# Altium schematic symbol library Molex MicroUSB - Don't Use.SchLib: 1 symbol
Pins are listed as number, name and electrical type; pins without a type are passive.

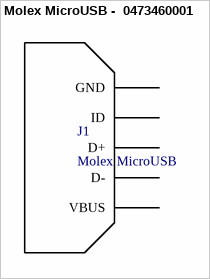
[diagram p0: symbol Molex MicroUSB -  0473460001]

## Molex MicroUSB -  0473460001
designator J1, comment Molex MicroUSB
pins: 1 VBUS, 2 D-, 3 D+, 4 ID, 5 GND